# Altium schematic symbol library TPS54JA20RWWR.SCHLIB: 13 symbols
Pins are listed as number, name and electrical type; pins without a type are passive.

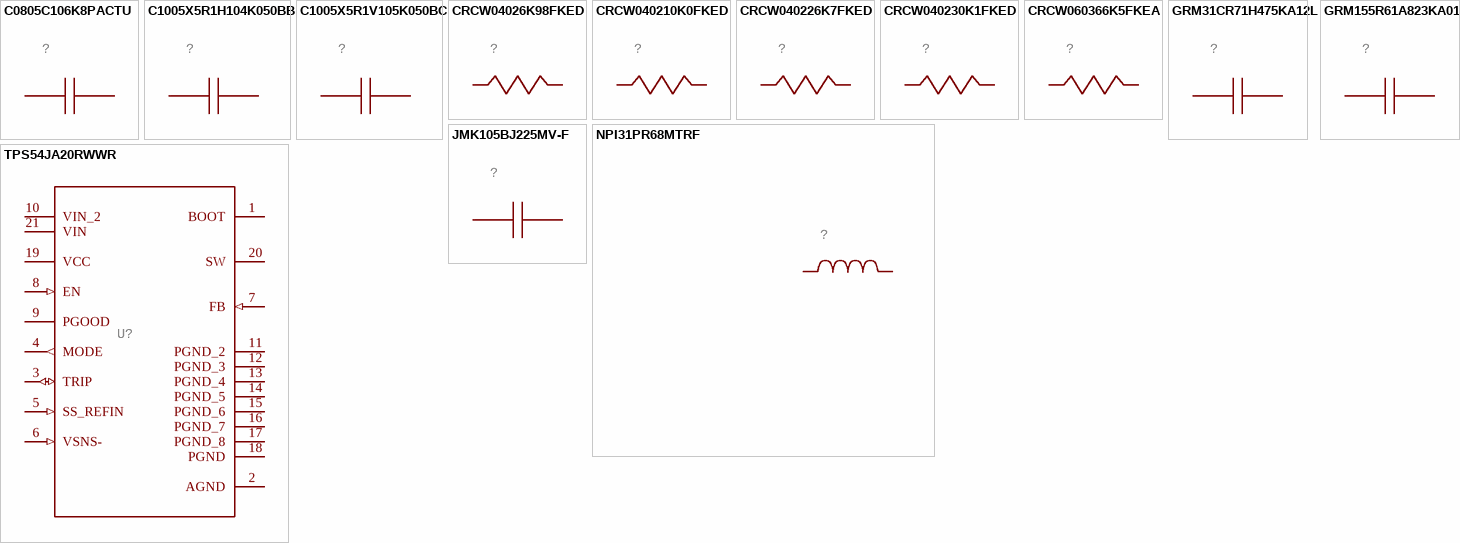
[diagram p0: symbols C0805C106K8PACTU to TPS54JA20RWWR]

## C0805C106K8PACTU
designator ?
GateName_1: A; SymbolName_1: WB_CAPACITOR; DeviceSetName: C0805C106K8PACTU; VENDOR: Kemet; LibraryName: TPS54JA20RWWR; Package: 0805; MANUFACTURER_PART_NUMBER: C0805C106K8PACTU
footprint 0805
pins: 1, 2

## C1005X5R1H104K050BB
designator ?
GateName_1: A; SymbolName_1: WB_CAPACITOR; DeviceSetName: C1005X5R1H104K050BB; VENDOR: TDK; LibraryName: TPS54JA20RWWR; Package: 0402; MANUFACTURER_PART_NUMBER: C1005X5R1H104K050BB
footprint 0402
pins: 1, 2

## C1005X5R1V105K050BC
designator ?
GateName_1: A; SymbolName_1: WB_CAPACITOR; DeviceSetName: C1005X5R1V105K050BC; VENDOR: TDK; LibraryName: TPS54JA20RWWR; Package: 0402; MANUFACTURER_PART_NUMBER: C1005X5R1V105K050BC
footprint 0402
pins: 1, 2

## CRCW04026K98FKED
designator ?
GateName_1: A; SymbolName_1: WB_RESISTOR; DeviceSetName: CRCW04026K98FKED; VENDOR: VishayDale; LibraryName: TPS54JA20RWWR; Package: 0402; MANUFACTURER_PART_NUMBER: CRCW04026K98FKED
footprint 0402
pins: 1, 2

## CRCW040210K0FKED
designator ?
GateName_1: A; SymbolName_1: WB_RESISTOR; DeviceSetName: CRCW040210K0FKED; VENDOR: VishayDale; LibraryName: TPS54JA20RWWR; Package: 0402; MANUFACTURER_PART_NUMBER: CRCW040210K0FKED
footprint 0402
pins: 1, 2

## CRCW040226K7FKED
designator ?
GateName_1: A; SymbolName_1: WB_RESISTOR; DeviceSetName: CRCW040226K7FKED; VENDOR: VishayDale; LibraryName: TPS54JA20RWWR; Package: 0402; MANUFACTURER_PART_NUMBER: CRCW040226K7FKED
footprint 0402
pins: 1, 2

## CRCW040230K1FKED
designator ?
GateName_1: A; SymbolName_1: WB_RESISTOR; DeviceSetName: CRCW040230K1FKED; VENDOR: VishayDale; LibraryName: TPS54JA20RWWR; Package: 0402; MANUFACTURER_PART_NUMBER: CRCW040230K1FKED
footprint 0402
pins: 1, 2

## CRCW060366K5FKEA
designator ?
GateName_1: A; SymbolName_1: WB_RESISTOR; DeviceSetName: CRCW060366K5FKEA; VENDOR: VishayDale; LibraryName: TPS54JA20RWWR; Package: 0603; MANUFACTURER_PART_NUMBER: CRCW060366K5FKEA
footprint 0603
pins: 1, 2

## GRM31CR71H475KA12L
designator ?
GateName_1: A; SymbolName_1: WB_CAPACITOR; DeviceSetName: GRM31CR71H475KA12L; VENDOR: MuRata; LibraryName: TPS54JA20RWWR; Package: 1206; MANUFACTURER_PART_NUMBER: GRM31CR71H475KA12L
footprint 1206
pins: 1, 2

## GRM155R61A823KA01D
designator ?
GateName_1: A; SymbolName_1: WB_CAPACITOR; DeviceSetName: GRM155R61A823KA01D; VENDOR: MuRata; LibraryName: TPS54JA20RWWR; Package: 0402; MANUFACTURER_PART_NUMBER: GRM155R61A823KA01D
footprint 0402
pins: 1, 2

## JMK105BJ225MV-F
designator ?
MANUFACTURER_PART_NUMBER: JMK105BJ225MVF; GateName_1: A; SymbolName_1: WB_CAPACITOR; DeviceSetName: JMK105BJ225MV-F; VENDOR: Taiyo Yuden; LibraryName: TPS54JA20RWWR; Package: 0402
footprint 0402
pins: 1, 2

## NPI31PR68MTRF
designator ?
GateName_1: A; SymbolName_1: WB_INDUCTOR; DeviceSetName: NPI31PR68MTRF; VENDOR: NIC Components; LibraryName: TPS54JA20RWWR; Package: IND_NPI31P; MANUFACTURER_PART_NUMBER: NPI31PR68MTRF
footprint IND_NPI31P
pins: 1, 2

## TPS54JA20RWWR
designator U?
GateName_1: A; SymbolName_1: TPS54JA20RWW; DeviceSetName: TPS54JA20RWWR; LibraryName: TPS54JA20RWWR; Package: RWW0021A; MANUFACTURER_PART_NUMBER: TPS54JA20RWWR
footprint RWW0021A
pins: 1 BOOT (power), 2 AGND (power), 3 TRIP (io), 4 MODE (out), 5 SS_REFIN (in), 6 VSNS- (in), 7 FB (in), 8 EN (in), 9 PGOOD (oc), 10 VIN_2 (power), 11 PGND_2 (power), 12 PGND_3 (power), 13 PGND_4 (power), 14 PGND_5 (power), 15 PGND_6 (power), 16 PGND_7 (power), 17 PGND_8 (power), 18 PGND (power), 19 VCC (power), 20 SW (power), 21 VIN (power)